# EAGLE library part AK09970 (library akm)
SENSOR HALL I2C/SPI 16QFN
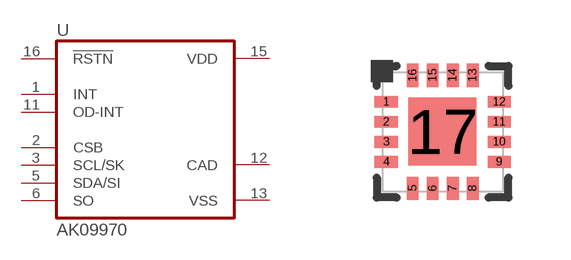
[diagram p30: symbol with the pads of WFQFN16; footprint WFQFN16]

Designator prefix U

## AK09970  [WFQFN16]
1  INT  out
2  CSB  in
3  SCL/SK
5  SDA/SI
6  SO  out
11  OD-INT  oc
12  CAD
13  VSS  pwr
15  VDD  pwr
16  !RSTN!  in

## Footprint WFQFN16 (pad centres in mm)
16-WFQFN Exposed Pad
smd 0.575 x 0.3: 1 -1.413,0.75; 2 -1.413,0.25; 3 -1.413,-0.25; 4 -1.413,-0.75; 9 1.413,-0.75; 10 1.413,-0.25; 11 1.413,0.25; 12 1.413,0.75
smd 0.3 x 0.575: 5 -0.75,-1.413; 6 -0.25,-1.413; 7 0.25,-1.413; 8 0.75,-1.413; 13 0.75,1.413; 14 0.25,1.413; 15 -0.25,1.413; 16 -0.75,1.413
smd 1.7 x 1.7: 17 0,0